# Altium schematic symbol library IR2101SPBF.SchLib: 1 symbol
Pins are listed as number, name and electrical type; pins without a type are passive.

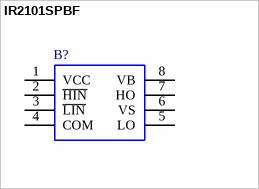
[diagram p0: symbol IR2101SPBF]

## IR2101SPBF
designator B?
Gate Drivers HI LO SIDE DRVR 600V 130mA 50ns; Manufacturer_Name: Infineon; Geometry.Height: 1.75mm; Manufacturer_Part_Number: IR2101SPBF; Mouser Part Number: 942-IR2101SPBF; Mouser Price/Stock: https://www.mouser.co.uk/ProductDetail/Infineon-Technologies/IR2101SPBF?qs=dQmlx5f5cRK0Gls2VgsKEQ%3D%3D; Arrow Part Number: IR2101SPBF; Arrow Price/Stock: https://www.arrow.com/en/products/ir2101spbf/infineon-technologies-ag?region=europe; Mouser Testing Part Number: *; Mouser Testing Price/Stock: *; Datasheet Link: https://www.infineon.com/cms/en/product/power/gate-driver-ics/?
footprint SOIC127P600X175-8N
pins: 1 VCC, 2 ~{HIN}, 3 ~{LIN}, 4 COM, 5 LO, 6 VS, 7 HO, 8 VB